# EAGLE library part DMG6602SVT (library borkedlabs-transistors)
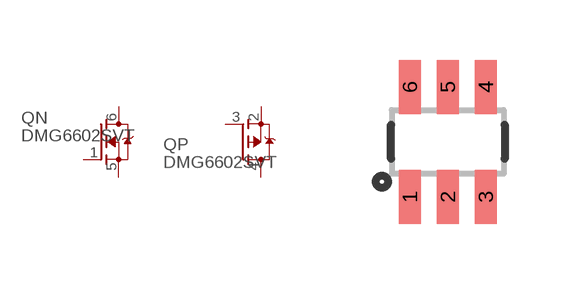
[diagram p3: symbol with the pads of SOT23-6; footprint SOT23-6]

Designator prefix Q; gates N=N_MOSFET P=P_MOSFET

## DMG6602SVT (PACKAGE: TSOT23-6)  [SOT23-6]
1  N:G  pas
2  P:S  pas
3  P:G  pas
4  P:D  pas
5  N:S  pas
6  N:D  pas

## Footprint SOT23-6 (pad centres in mm)
smd 0.55 x 1.35: 1 -0.95,-1.375; 2 0,-1.375; 3 0.95,-1.375; 4 0.95,1.375; 5 0,1.375; 6 -0.95,1.375